# EAGLE library part 62001011722 (library WR-WTB)
WR-WTB 2.00 mm Male Horizontal Shrouded Header Material Properties Insulator Material PA66 Insulator Flammability Rating UL94 V-0 Color Beige Contact Material Copper Alloy Contact Plating Tin Contact Type Stamped Certification UL Approval E323964 General Information Operating Temperature -25 °C up to +85 °C Compliance RoHS IR 2 A Working Voltage 125 V (AC) Withstanding Voltage 800 V (AC) Contact Resistance 20 mΩ RISO 1000 MΩ Pitch 2 mm Gender Male Type Horizontal Packaging Properties Packaging Bag Details see: www.we-online.com/en/components/products/WTB_2_00_MALE_HORIZONTAL_SHROUDED_HEADER_6200XX11722 Updated by Ella 2025-03-06 2025 (C) Würth Elektronik
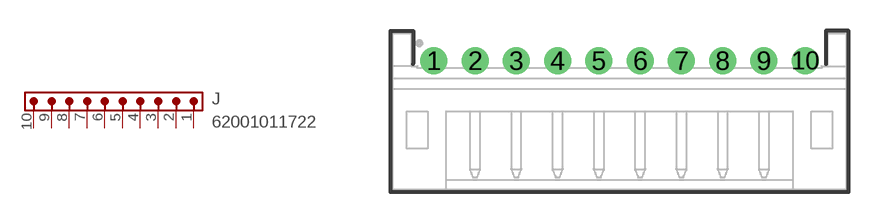
[diagram p142: symbol with the pads of 62001011722; footprint 62001011722]

Designator prefix J

## 62001011722 (CONTACT-RESISTANCE: 20mOhm; DATASHEET: https://www.we-online.com/redexpert/spec/62001011722?ae; GENDER: Male; IR: 2A; L: 22mm; MOUNT: THT; PACKAGING: Bag; PART-NUMBER: 62001011722; PCB-CABLE-PANEL: PCB; PINS: 10; PITCH: 2mm; TYPE: Horizontal; VALUE: 62001011722; WORKING-VOLTAGE: 125V(AC))  [62001011722]
1  1  pas
2  2  pas
3  3  pas
4  4  pas
5  5  pas
6  6  pas
7  7  pas
8  8  pas
9  9  pas
10  10  pas

## Footprint 62001011722 (pad centres in mm)
WR-WTB 2.00 mm Male Horizontal Shrouded Header,10 Pins
drill 0.8: 1 -9,2.45; 2 -7,2.45; 3 -5,2.45; 4 -3,2.45; 5 -1,2.45; 6 1,2.45; 7 3,2.45; 8 5,2.45; 9 7,2.45; 10 9,2.45